# Altium integrated library 4 Pin 4Pos THT BergeStick 2.54MM Amphenol 68001-104HLF.IntLib: 1 symbol
Pins are listed as number, name and electrical type; pins without a type are passive.

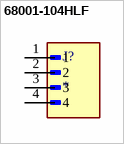
[diagram p0: symbol 68001-104HLF]

## 68001-104HLF
designator J?
Conn; Rect; Header; Unshrouded; 4 Pos; 2.54mm Pitch; 1-Row; Thru-Hole; BergStik | Amphenol FCI (Amphenol CS) 68001-104HLF; SnapEDA_Link: https://www.snapeda.com/parts/68001-104HLF/Amphenol/view-part/?ref=snap; Package: None; Value: *; MF: Amphenol; MP: 68001-104HLF; Check_prices: https://www.snapeda.com/parts/68001-104HLF/Amphenol/view-part/?ref=eda
footprint AMPHENOL_68001-104HLF
pins: 1, 2, 3, 4